# Altium footprint library 3009.PcbLib: 1 footprints
Each footprint in its own frame and in the unit in brackets; x right, y up, seen from the top. Pads: shape width x height; smd on the part's side, far side on the other; paste and mask are expansions set on the pad; w line width, h text height; cw(c..) or ccw(c..) is an arc to the next point about the centre after c.
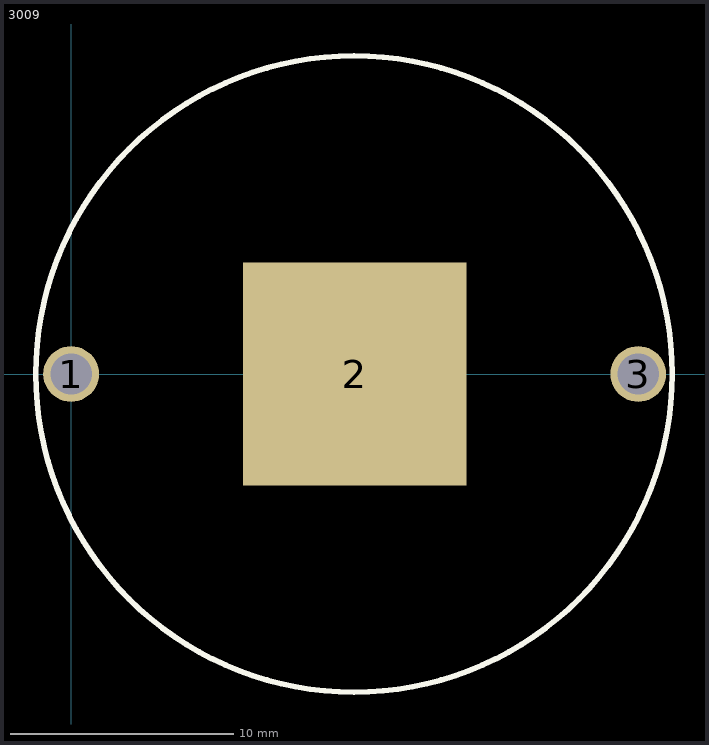
[diagram p0: the footprint, top view; thin cyan lines are the x and y axes]

## 3009 [mm] "24mm Coin Battery Holder"
pads (3):
  round 2.5 hole 1.85: 1(0,0) 3(25.4,0)
  rect 10x10 smd: 2(12.7,0)
Top Overlay:
  circle w0.254: c12.67,0 r14.25